# Altium integrated library Altium_BJT.IntLib: 3 symbols
Pins are listed as number, name and electrical type; pins without a type are passive.

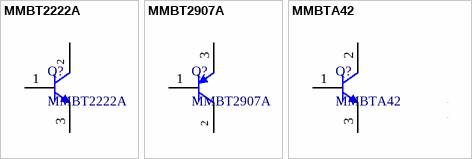
[diagram p0: symbols MMBT2222A to MMBTA42]

## MMBT2222A
designator Q?
TRANS NPN, 40V, 600MA, SOT23-3; DC Current Gain: 35-300; Gain Bandwidth Product fT: 250MHz; Power Dissipation: 250mW; Current - Collector: 600mA; Package: SOT-23; Supplier 1 Name: Mouser; Supplier 1 SN: 637-MMBT2222A; Supplier 1 URL: https://www.mouser.vn/ProductDetail/Diotec-Semiconductor/MMBT2222A?qs=OlC7AqGiEDl9N1c3%252BL%2F%252Brw%3D%3D; Supplier 2 Name: Digi-Key; Supplier 2 SN: 2796-MMBT2222ATR-ND; Supplier 2 URL: https://www.digikey.com/en/products/detail/diotec-semiconductor/MMBT2222A/13163394; Supplier 3 Name: thegioiic; Supplier 3 URL: https://www.thegioiic.com/mmbt2222a-transistor-npn-40v-0-6a-3-chan-sot-23; Transistor Type: NPN; Voltage - Collector Emitter Breakdown: 40V; Supplier 3 SN: N/A; Value: MMBT2222A
footprint MMBT-SOT23
pins: 1 B, 2 C, 3 E

## MMBT2907A
designator Q?
TRANS PNP 60V 0.6A SOT23-3; Current - Collector: 600mA; DC Current Gain: 50-300; Gain Bandwidth Product fT: 200MHz; Power Dissipation: 250mW; Voltage - Collector Emitter Breakdown: 60V; Package: SOT-23; Supplier 1 Name: Mouser; Supplier 1 SN: 637-MMBT2907A; Supplier 1 URL: https://www.mouser.vn/ProductDetail/Diotec-Semiconductor/MMBT2907A?qs=OlC7AqGiEDk%2F%2FX9t05LXdg%3D%3D; Supplier 2 Name: Digi-Key; Supplier 2 SN: 2721-MMBT2907A-ND; Supplier 2 URL: https://www.digikey.com/en/products/detail/dcomponents/MMBT2907A/13574996; Transistor Type: PNP; Supplier 3 Name: thegioiic; Supplier 3 SN: N/A; Supplier 3 URL: https://www.thegioiic.com/mmbt2907a-transistor-pnp-60v-0-6a-3-chan-sot-23; Value: MMBT2907A
footprint MMBT-SOT23
pins: 1 B, 2 C, 3 E

## MMBTA42
designator Q?
TRANS NPN, 300V, 0.5A, SOT23-3; Current - Collector: 500mA; DC Current Gain: 80-200; Power Dissipation: 250mW; Gain Bandwidth Product fT: 50MHz; Voltage - Collector Emitter Breakdown: 300V; Transistor Type: NPN; Package: SOT-23; Supplier 1 Name: Mouser; Supplier 1 SN: 637-MMBTA42; Supplier 1 URL: https://www.mouser.vn/ProductDetail/Diotec-Semiconductor/MMBTA42?qs=OlC7AqGiEDkTSphcOD18pw%3D%3D; Supplier 2 Name: Digi-Key; Supplier 2 SN: 2796-MMBTA42TR-ND; Supplier 2 URL: https://www.digikey.com/en/products/detail/diotec-semiconductor/MMBTA42/13163233; Supplier 3 Name: thegioiic; Supplier 3 SN: N/A; Supplier 3 URL: https://www.thegioiic.com/mmbta42-transistor-npn-300v-0-5a-3-chan-sot-23; Value: MMBTA42
footprint MMBT-SOT23
pins: 1 B, 2 C, 3 E